# EAGLE library part MC33269DG (library ON Semiconductor_By_element14_Batch_1)
Voltage Regulator
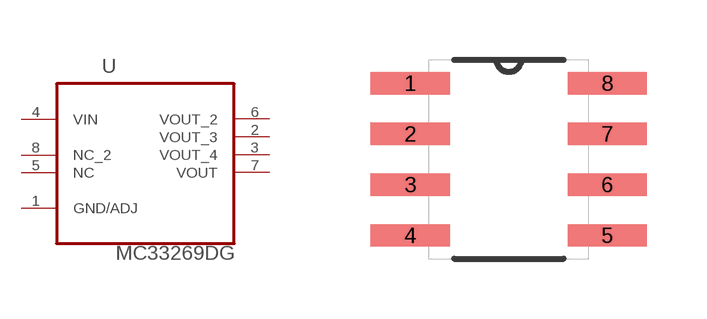
[diagram p374: symbol with the pads of SOIC127P600X175-8N; footprint SOIC127P600X175-8N]

Designator prefix U

## MC33269DG (MPN: MC33269DG; OC_FARNELL: 1260774; OC_NEWARK: 42K0603; P1I: o; PACKAGE: SOIC-8; SUPPLIER: ON Semiconductor)  [SOIC127P600X175-8N]
1  GND/ADJ  pas
2  VOUT_3  out
3  VOUT_4  out
4  VIN  pwr
5  NC  nc
6  VOUT_2  out
7  VOUT  out
8  NC_2  nc

## Footprint SOIC127P600X175-8N (pad centres in mm)
smd 1.981 x 0.559: 1 -2.464,1.905; 2 -2.464,0.635; 3 -2.464,-0.635; 4 -2.464,-1.905; 5 2.464,-1.905; 6 2.464,-0.635; 7 2.464,0.635; 8 2.464,1.905